# Altium footprint library LTC2630_R.PcbLib: 2 footprints
Each footprint in its own frame and in the unit in brackets; x right, y up, seen from the top. Pads: shape width x height; smd on the part's side, far side on the other; paste and mask are expansions set on the pad; w line width, h text height; cw(c..) or ccw(c..) is an arc to the next point about the centre after c.
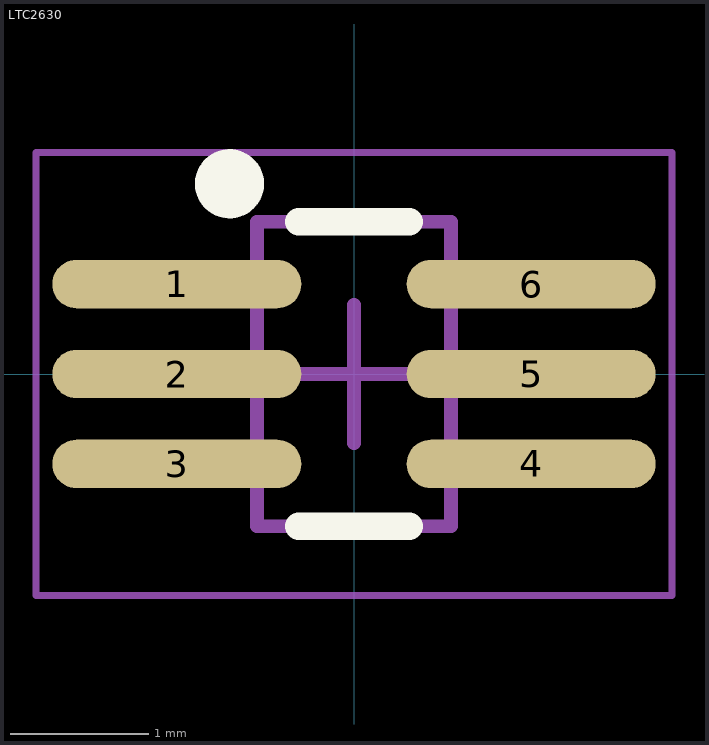
[diagram p0: the footprints below, top view; thin cyan lines are the x and y axes]

## LTC2630 [mm] "TSOP, 6-Leads, Body 2.00x1.25mm, Pitch 0.65mm, IPC Low Density"
height 1
pads (6):
  oval 1.8x0.35 smd: 1(-1.281,0.65) 2(-1.281,0) 3(-1.281,-0.65) 4(1.281,-0.65) 5(1.281,0) 6(1.281,0.65)
Top Overlay:
  circle w0.25: c-0.9,1.375 r0.125
  lines w0.2: -0.4,-1.1 0.4,-1.1 ; -0.4,1.1 0.4,1.1
Mechanical 13:
  lines w0.1: -0.7,-1.1 0.7,-1.1 0.7,1.1 -0.7,1.1 -0.7,-1.1
Mechanical 15:
  lines w0.05: -2.3,-1.6 2.3,-1.6 2.3,1.6 -2.3,1.6 -2.3,-1.6
  lines w0.1: -0.5,0 0.5,0 ; 0,-0.5 0,0.5
3D body: height 1, standoff 0.15, extent -0.7,-1.1 0.7,1.1

## TSOP65P210X100-6M [mm] "TSOP, 6-Leads, Body 2.00x1.25mm, Pitch 0.65mm, IPC Low Density"
height 1